# EAGLE library part EC92 (library radiotubes)
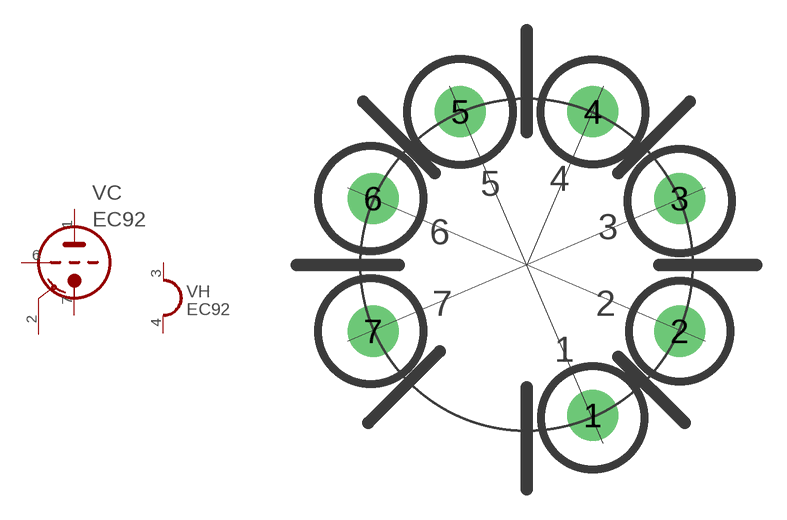
[diagram p95: symbol with the pads of MI7PIN; footprint MI7PIN]

Designator prefix V; gates C=TRIODE H=HEATER_1 G$3=SH-INT

## EC92  [MI7PIN]
1  C:A  pas
2  G$3:S  pas
3  H:H1  pas
4  H:H2  pas
6  C:G  pas
7  C:K  pas

## Footprint MI7PIN (pad centres in mm)
drill 0.813 pad 2.54: 1 3.302,-7.493; 2 7.62,-3.302; 3 7.62,3.302; 4 3.302,7.62; 5 -3.302,7.62; 6 -7.62,3.302; 7 -7.62,-3.302